# EAGLE library part 610X2221821 (library Eagle_BOARD-TO-BOARD_CONNECTORS (rev18b))
WR-PHD 2.54mm SMT Socket Header=>Code : Con_BTB_SHD_2.54_1_SMT_610x0421821(packageing:x = 0: Tube x = 3: Tape & Reel with Cap; 600 pcs/Reel) <http://katalog.we-online.de/media/images/eican/Con_BTB_SHD_2.54_1_SMT_6100xx21821_pf2.jpg> 6100xx21821 Details see: http://katalog.we-online.de/en/em/PHD_2_54_SMT_DUAL_SOCKET_HEADER_6100XX21821 6103xx21821 Details see: http://katalog.we-online.de/en/em/PHD_2_54_SMT_DUAL_SOCKET_HEADER_REEL_6103XX21821 2014 (C) Würth Elektronik
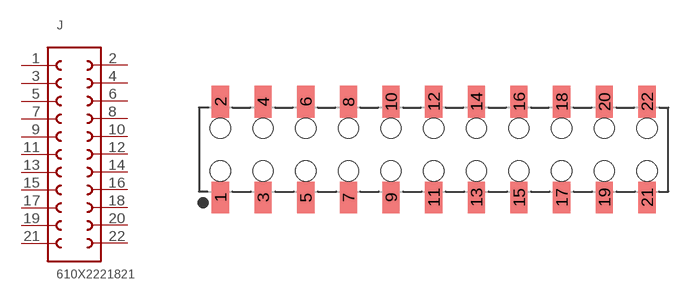
[diagram p209: symbol with the pads of 610X2221821; footprint 610X2221821]

Designator prefix J

## 610X2221821  [610X2221821]
1  1  pas
2  22  pas
3  2  pas
4  21  pas
5  3  pas
6  20  pas
7  4  pas
8  19  pas
9  5  pas
10  18  pas
11  6  pas
12  17  pas
13  7  pas
14  16  pas
15  8  pas
16  15  pas
17  9  pas
18  14  pas
19  10  pas
20  13  pas
21  11  pas
22  12  pas

## Footprint 610X2221821 (pad centres in mm)
WR-PHD 2.54mm Dual SMT Socket Header, 22 Pins
smd 1.02 x 1.9: 1 -12.7,-2.85; 2 -12.7,2.85; 3 -10.16,-2.85; 4 -10.16,2.85; 5 -7.62,-2.85; 6 -7.62,2.85; 7 -5.08,-2.85; 8 -5.08,2.85; 9 -2.54,-2.85; 10 -2.54,2.85; 11 0,-2.85; 12 0,2.85; 13 2.54,-2.85; 14 2.54,2.85; 15 5.08,-2.85; 16 5.08,2.85; 17 7.62,-2.85; 18 7.62,2.85; 19 10.16,-2.85; 20 10.16,2.85; 21 12.7,-2.85; 22 12.7,2.85
hole 1.2 at -12.7,-1.27
hole 1.2 at -10.16,-1.27
hole 1.2 at -10.16,1.27
hole 1.2 at -12.7,1.27
hole 1.2 at -7.62,-1.27
hole 1.2 at -7.62,1.27
hole 1.2 at -5.08,1.27
hole 1.2 at -5.08,-1.27
hole 1.2 at -2.54,-1.27
hole 1.2 at -2.54,1.27
hole 1.2 at 0,-1.27
hole 1.2 at 0,1.27
hole 1.2 at 2.54,1.27
hole 1.2 at 2.54,-1.27
hole 1.2 at 5.08,1.27
hole 1.2 at 5.08,-1.27
hole 1.2 at 7.62,-1.27
hole 1.2 at 7.62,1.27
hole 1.2 at 10.16,-1.27
hole 1.2 at 10.16,1.27
hole 1.2 at 12.7,1.27
hole 1.2 at 12.7,-1.27